# Altium footprint library MIT_Pcblib.PcbLib: 41 footprints (part 1 of 3)
Each footprint in its own frame and in the unit in brackets; x right, y up, seen from the top. Pads: shape width x height; smd on the part's side, far side on the other; paste and mask are expansions set on the pad; w line width, h text height; cw(c..) or ccw(c..) is an arc to the next point about the centre after c.
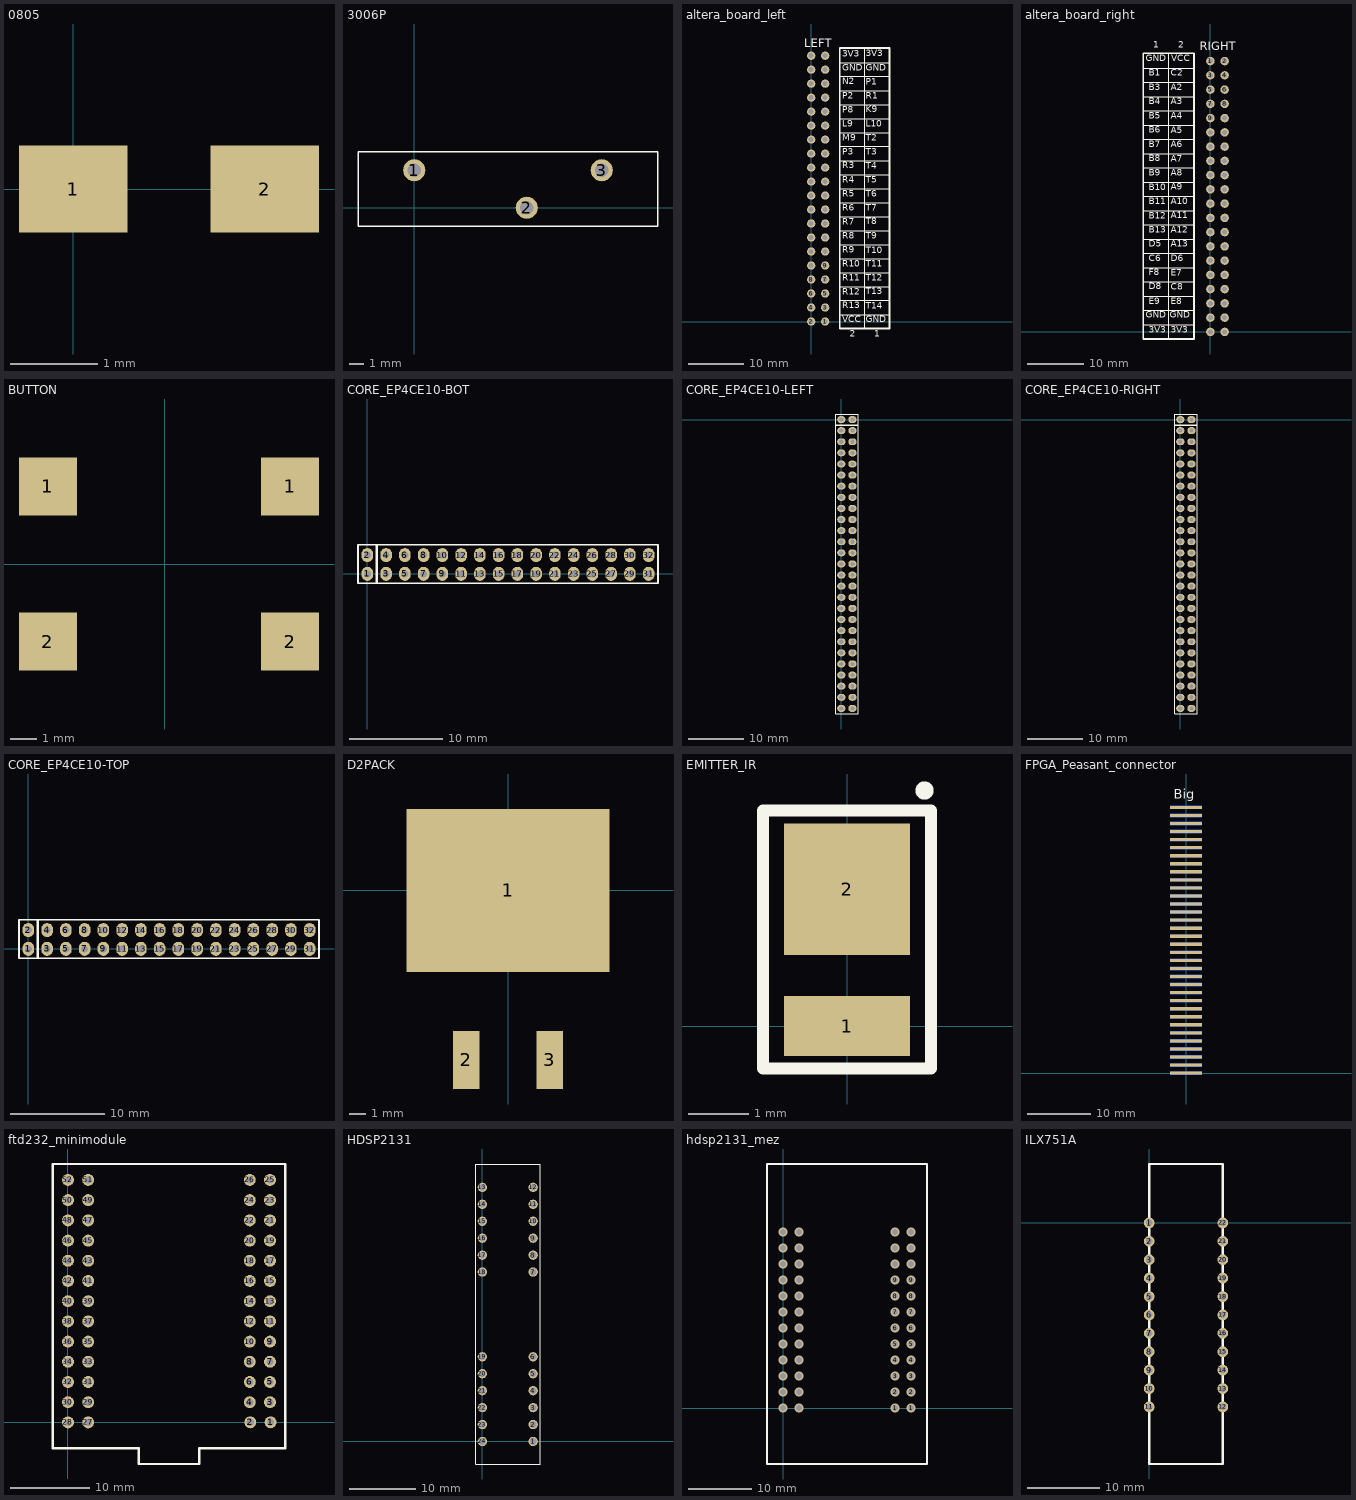
[diagram p0: the footprints below, top view; thin cyan lines are the x and y axes]

## 0805 [mm]
pads (2):
  rect 1.25x1 smd: 1(0,0) 2(2.2,0)
3D body: height 1.25, standoff 0, extent -0.727,-0.602 2.927,0.602

## 3006P [mm]
pads (3):
  round 1.5 hole 0.9: 1(0,2.54) 2(7.62,0) 3(12.7,2.54)
Top Overlay:
  lines w0.1: -3.81,-1.27 -3.81,3.81 16.51,3.81 16.51,-1.27 -3.81,-1.27
3D body: height 6.35, standoff 0, extent -3.86,-1.32 16.56,3.86
3D body: height 5.76, standoff 3.5, extent 16.511,0.001 18.033,2.539

## altera_board_left [mm]
pads (40):
  round 1.5 hole 0.9: 1(2.54,0) 2(0,0) 3(2.54,2.54) 4(0,2.54) 5(2.54,5.08) 6(0,5.08) 7(2.54,7.62) 8(0,7.62) 9(2.54,10.16) 10(0,10.16) 11(2.54,12.7) 12(0,12.7) 13(2.54,15.24) 14(0,15.24) 15(2.54,17.78) 16(0,17.78) 17(2.54,20.32) 18(0,20.32) 19(2.54,22.86) 20(0,22.86) 21(2.54,25.4) 22(0,25.4) 23(2.54,27.94) 24(0,27.94) 25(2.54,30.48) 26(0,30.48) 27(2.54,33.02) 28(0,33.02) 29(2.54,35.56) 30(0,35.56) 31(2.54,38.1) 32(0,38.1) 33(2.54,40.64) 34(0,40.64) 35(2.54,43.18) 36(0,43.18) 37(2.54,45.72) 38(0,45.72) 39(2.54,48.26) 40(0,48.26)
Top Overlay:
  lines w0.203: 5.156,6.35 14.249,6.35 ; 5.156,11.43 14.249,11.43 ; 5.156,13.97 14.234,13.97 ; 5.156,19.05 14.259,19.05 ; 5.156,21.565 14.224,21.565 ; 5.177,16.51 14.224,16.51 ; 5.182,8.89 14.224,8.89 ; 5.182,24.13 14.224,24.13 ; 5.182,29.21 14.224,29.21 ; 5.182,41.91 14.224,41.91 ; 5.207,44.526 14.224,44.526 ; 5.232,26.67 14.224,26.67 ; 5.232,34.29 14.242,34.29 ; 5.232,39.37 14.224,39.37 ; 5.232,46.99 14.224,46.99 ; 5.236,31.775 14.224,31.775 ; 5.236,36.83 14.224,36.83 ; 9.754,49.606 9.754,-1.261 9.779,-1.261 ; 14.224,1.27 5.156,1.27 5.156,3.861 14.224,3.861
  lines w0.305: 14.224,49.606 14.224,-1.27 5.156,-1.27 5.156,49.657 14.224,49.657
  text "LEFT" at -1.27,49.784 h1.5
  text "3V3" at 5.588,47.642 h2.03
  text "3V3" at 9.931,47.693 h2.03
  text "GND" at 5.588,45.077 h2.03
  text "GND" at 9.931,45.077 h2.03
  text "N2" at 5.588,42.587 h2.03
  text "P1" at 9.931,42.511 h2.03
  text "P2" at 5.588,39.997 h2.03
  text "R1" at 9.931,39.997 h2.03
  text "P8" at 5.588,37.457 h2.03
  text "K9" at 9.931,37.507 h2.03
  text "L9" at 5.588,34.891 h2.03
  text "L10" at 9.931,34.891 h2.03
  text "M9" at 5.588,32.377 h2.03
  text "T2" at 9.931,32.402 h2.03
  text "P3" at 5.588,29.862 h2.03
  text "T3" at 9.931,29.811 h2.03
  text "R3" at 5.588,27.347 h2.03
  text "T4" at 9.931,27.297 h2.03
  text "R4" at 5.588,24.757 h2.03
  text "T5" at 9.931,24.757 h2.03
  text "R5" at 5.588,22.217 h2.03
  text "T6" at 9.931,22.217 h2.03
  text "R6" at 5.588,19.68 h2.03
  text "T7" at 9.931,19.68 h2.03
  text "R7" at 5.588,17.137 h2.03
  text "T8" at 9.931,17.187 h2.03
  text "R8" at 5.588,14.592 h2.03
  text "T9" at 9.931,14.571 h2.03
  text "R9" at 5.588,12.057 h2.03
  text "T10" at 9.931,11.955 h2.03
  text "R10" at 5.588,9.517 h2.03
  text "T11" at 9.931,9.517 h2.03
  text "R11" at 5.588,6.926 h2.03
  text "T12" at 9.931,6.926 h2.03
  text "R12" at 5.588,4.411 h2.03
  text "T13" at 9.931,4.487 h2.03
  text "R13" at 5.588,1.922 h2.03
  text "T14" at 9.931,1.897 h2.03
  text "2" at 6.985,-3.175 h2.03
  text "1" at 11.43,-3.175 h2.03
  text "VCC" at 5.588,-0.618 h2.03
  text "GND" at 9.931,-0.618 h2.03

## altera_board_right [mm]
pads (40):
  round 1.5 hole 0.9: 1(0,48.26) 2(2.54,48.26) 3(0,45.72) 4(2.54,45.72) 5(0,43.18) 6(2.54,43.18) 7(0,40.64) 8(2.54,40.64) 9(0,38.1) 10(2.54,38.1) 11(0,35.56) 12(2.54,35.56) 13(0,33.02) 14(2.54,33.02) 15(0,30.48) 16(2.54,30.48) 17(0,27.94) 18(2.54,27.94) 19(0,25.4) 20(2.54,25.4) 21(0,22.86) 22(2.54,22.86) 23(0,20.32) 24(2.54,20.32) 25(0,17.78) 26(2.54,17.78) 27(0,15.24) 28(2.54,15.24) 29(0,12.7) 30(2.54,12.7) 31(0,10.16) 32(2.54,10.16) 33(0,7.62) 34(2.54,7.62) 35(0,5.08) 36(2.54,5.08) 37(0,2.54) 38(2.54,2.54) 39(0,0) 40(2.54,0)
Top Overlay:
  lines w0.203: -11.989,6.35 -2.896,6.35 ; -11.989,11.43 -2.896,11.43 ; -11.989,13.97 -2.911,13.97 ; -11.989,19.05 -2.886,19.05 ; -11.989,21.565 -2.921,21.565 ; -11.968,16.51 -2.921,16.51 ; -11.963,8.89 -2.921,8.89 ; -11.963,24.13 -2.921,24.13 ; -11.963,29.21 -2.921,29.21 ; -11.963,41.91 -2.921,41.91 ; -11.938,44.526 -2.921,44.526 ; -11.913,26.67 -2.921,26.67 ; -11.913,34.29 -2.903,34.29 ; -11.913,39.37 -2.921,39.37 ; -11.913,46.99 -2.921,46.99 ; -11.909,31.775 -2.921,31.775 ; -11.909,36.83 -2.921,36.83 ; -7.391,49.606 -7.391,-1.261 -7.366,-1.261 ; -2.921,1.27 -11.989,1.27 -11.989,3.861 -2.921,3.861
  lines w0.305: -2.921,49.606 -2.921,-1.27 -11.989,-1.27 -11.989,49.657 -2.921,49.657
  text "1" at -10.16,50.165 h2.03
  text "2" at -5.715,50.165 h2.03
  text "RIGHT" at -1.905,50.165 h1.5
  text "GND" at -11.557,47.752 h2.03
  text "VCC" at -6.985,47.752 h2.03
  text "B1" at -10.998,45.17 h2.03
  text "C2" at -7.087,45.17 h2.03
  text "B3" at -10.998,42.604 h2.03
  text "A2" at -7.087,42.63 h2.03
  text "B4" at -10.998,40.166 h2.03
  text "A3" at -7.087,40.115 h2.03
  text "B5" at -10.998,37.499 h2.03
  text "A4" at -7.087,37.524 h2.03
  text "B6" at -10.998,35.052 h2.03
  text "A5" at -7.087,34.976 h2.03
  text "B7" at -10.998,32.495 h2.03
  text "A6" at -7.087,32.461 h2.03
  text "B8" at -10.998,29.955 h2.03
  text "A7" at -7.087,29.896 h2.03
  text "B9" at -10.998,27.415 h2.03
  text "A8" at -7.087,27.364 h2.03
  text "B10" at -10.998,24.824 h2.03
  text "A9" at -7.087,24.85 h2.03
  text "B11" at -10.998,22.335 h2.03
  text "A10" at -7.087,22.31 h2.03
  text "B12" at -10.998,19.744 h2.03
  text "A11" at -7.087,19.82 h2.03
  text "B13" at -10.998,17.255 h2.03
  text "A12" at -7.087,17.23 h2.03
  text "D5" at -10.998,14.74 h2.03
  text "A13" at -7.087,14.69 h2.03
  text "C6" at -10.998,12.15 h2.03
  text "D6" at -7.087,12.124 h2.03
  text "F8" at -10.998,9.66 h2.03
  text "E7" at -7.087,9.584 h2.03
  text "D8" at -10.998,7.12 h2.03
  text "C8" at -7.087,7.044 h2.03
  text "E9" at -10.998,4.504 h2.03
  text "E8" at -7.087,4.479 h2.03
  text "GND" at -11.557,2.032 h2.03
  text "GND" at -7.239,2.032 h2.03
  text "3V3" at -10.998,-0.584 h2.03
  text "3V3" at -7.087,-0.635 h2.03

## BUTTON [mm]
pads (4):
  rect 2.2x2.2 smd: 1(-4.447,2.959) 1(4.753,2.959) 2(-4.447,-2.941) 2(4.753,-2.941)
3D body: height 3.5, standoff 0, extent -2.974,-2.968 3.28,3.286
3D body: height 4.3, standoff 3.5, extent -1.693,-1.487 1.799,2.005

## CORE_EP4CE10-BOT [mm]
pads (32):
  oval 1.25x1.5 hole 0.75: 1(0,0) 2(0,2) 3(2,0) 4(2,2) 5(4,0) 6(4,2) 7(6,0) 8(6,2) 9(8,0) 10(8,2) 11(10,0) 12(10,2) 13(12,0) 14(12,2) 15(14,0) 16(14,2) 17(16,0) 18(16,2) 19(18,0) 20(18,2) 21(20,0) 22(20,2) 23(22,0) 24(22,2) 25(24,0) 26(24,2) 27(26,0) 28(26,2) 29(28,0) 30(28,2) 31(30,0) 32(30,2)
Top Overlay:
  lines w0.2: -1,-1 30.987,-1 30.994,-0.993 30.994,3.099 ; -1,-0.991 -1,3.1 ; -1,1.1 -1,2.5 ; -1,3.099 31,3.099
  lines w0.254: 1,-0.965 1,3.048

## CORE_EP4CE10-LEFT [mm]
pads (54):
  oval 1.5x1.25 hole 0.75: 1(0,0) 2(2,0) 3(0,-2) 4(2,-2) 5(0,-4) 6(2,-4) 7(0,-6) 8(2,-6) 9(0,-8) 10(2,-8) 11(0,-10) 12(2,-10) 13(0,-12) 14(2,-12) 15(0,-14) 16(2,-14) 17(0,-16) 18(2,-16) 19(0,-18) 20(2,-18) 21(0,-20) 22(2,-20) 23(0,-22) 24(2,-22) 25(0,-24) 26(2,-24) 27(0,-26) 28(2,-26) 29(0,-28) 30(2,-28) 31(0,-30) 32(2,-30) 33(0,-32) 34(2,-32) 35(0,-34) 36(2,-34) 37(0,-36) 38(2,-36) 39(0,-38) 40(2,-38)
  oval 1.5x1.25 hole 0.762: 41(0,-40) 42(2,-40) 43(0,-42) 44(2,-42) 45(0,-44) 46(2,-44) 47(0,-46) 48(2,-46) 49(0,-48) 50(2,-48) 51(0,-50) 52(2,-50) 53(0,-52) 54(2,-52)
Top Overlay:
  lines w0.2: -1,1 -1,-53 -0.991,-53.01 2.997,-53.01 3.023,-52.984 3.023,1 -0.991,1 ; 1.1,1 2.5,1
  lines w0.254: -0.965,-1 3.048,-1

## CORE_EP4CE10-RIGHT [mm]
pads (54):
  oval 1.5x1.25 hole 0.75: 1(0,0) 2(2,0) 3(0,-2) 4(2,-2) 5(0,-4) 6(2,-4) 7(0,-6) 8(2,-6) 9(0,-8) 10(2,-8) 11(0,-10) 12(2,-10) 13(0,-12) 14(2,-12) 15(0,-14) 16(2,-14) 17(0,-16) 18(2,-16) 19(0,-18) 20(2,-18) 21(0,-20) 22(2,-20) 23(0,-22) 24(2,-22) 25(0,-24) 26(2,-24) 27(0,-26) 28(2,-26) 29(0,-28) 30(2,-28) 31(0,-30) 32(2,-30) 33(0,-32) 34(2,-32) 35(0,-34) 36(2,-34) 37(0,-36) 38(2,-36) 39(0,-38) 40(2,-38)
  oval 1.5x1.25 hole 0.762: 41(0,-40) 42(2,-40) 43(0,-42) 44(2,-42) 45(0,-44) 46(2,-44) 47(0,-46) 48(2,-46) 49(0,-48) 50(2,-48) 51(0,-50) 52(2,-50) 53(0,-52) 54(2,-52)
Top Overlay:
  lines w0.2: -1,1 -1,-53 -0.991,-53.01 2.997,-53.01 3.023,-52.984 3.023,1 -0.991,1 ; 1.1,1 2.5,1
  lines w0.254: -0.965,-1 3.048,-1

## CORE_EP4CE10-TOP [mm]
pads (32):
  oval 1.25x1.5 hole 0.75: 1(0,0) 2(0,2) 3(2,0) 4(2,2) 5(4,0) 6(4,2) 7(6,0) 8(6,2) 9(8,0) 10(8,2) 11(10,0) 12(10,2) 13(12,0) 14(12,2) 15(14,0) 16(14,2) 17(16,0) 18(16,2) 19(18,0) 20(18,2) 21(20,0) 22(20,2) 23(22,0) 24(22,2) 25(24,0) 26(24,2) 27(26,0) 28(26,2) 29(28,0) 30(28,2) 31(30,0) 32(30,2)
Top Overlay:
  lines w0.2: -1,-1 30.987,-1 30.994,-0.993 30.994,3.099 ; -1,-0.991 -1,3.1 ; -1,1.1 -1,2.5 ; -1,3.099 31,3.099
  lines w0.254: 1,-0.965 1,3.048

## D2PACK [mm]
pads (3):
  rect 12.2x9.8 smd: 1(0,0)
  rect 1.6x3.5 smd: 2(-2.5,-10.2) 3(2.5,-10.2)

## EMITTER_IR [mm] "EMITTER_IR"
pads (2):
  rect 2.1x1 smd: 1(0,0)
  rect 2.1x2.2 smd: 2(0,2.286)
Top Overlay:
  circle w0.254: c1.295,3.937 r0.025
  lines w0.2: -1.4,-0.711 -1.4,3.6 1.4,3.6 1.4,-0.711 -1.4,-0.711
3D body: height 0.8, standoff 0, extent -1.399,-0.711 1.399,3.599

## FPGA_Peasant_connector [mm]
pads (68):
  rect 5x0.5 smd: 1(0,41.91) 2(0,40.64) 3(0,39.37) 4(0,38.1) 5(0,36.83) 6(0,35.56) 7(0,34.29) 8(0,33.02) 9(0,31.75) 10(0,30.48) 11(0,29.21) 12(0,27.94) 13(0,26.67) 14(0,25.4) 15(0,24.13) 16(0,22.86) 17(0,21.59) 18(0,20.32) 19(0,19.05) 20(0,17.78) 21(0,16.51) 22(0,15.24) 23(0,13.97) 24(0,12.7) 25(0,11.43) 26(0,10.16) 27(0,8.89) 28(0,7.62) 29(0,6.35) 30(0,5.08) 31(0,3.81) 32(0,2.54) 33(0,1.27) 34(0,0)
  rect 5x0.5 smd far side: 35(0,41.91) 36(0,40.64) 37(0,39.37) 38(0,38.1) 39(0,36.83) 40(0,35.56) 41(0,34.29) 42(0,33.02) 43(0,31.75) 44(0,30.48) 45(0,29.21) 46(0,27.94) 47(0,26.67) 48(0,25.4) 49(0,24.13) 50(0,22.86) 51(0,21.59) 52(0,20.32) 53(0,19.05) 54(0,17.78) 55(0,16.51) 56(0,15.24) 57(0,13.97) 58(0,12.7) 59(0,11.43) 60(0,10.16) 61(0,8.89) 62(0,7.62) 63(0,6.35) 64(0,5.08) 65(0,3.81) 66(0,2.54) 67(0,1.27) 68(0,0)
Top Overlay:
  text "Big" at -1.905,43.307 h1.5

## ftd232_minimodule [mm]
pads (52):
  round 1.5 hole 0.9: 1(25.465,0.01) 2(22.925,0.01) 3(25.4,2.54) 4(22.86,2.54) 5(25.4,5.08) 6(22.86,5.08) 7(25.4,7.62) 8(22.86,7.62) 9(25.4,10.16) 10(22.86,10.16) 11(25.4,12.7) 12(22.86,12.7) 13(25.4,15.24) 14(22.86,15.24) 15(25.4,17.78) 16(22.86,17.78) 17(25.4,20.32) 18(22.86,20.32) 19(25.4,22.86) 20(22.86,22.86) 21(25.4,25.4) 22(22.86,25.4) 23(25.4,27.94) 24(22.86,27.94) 25(25.4,30.48) 26(22.86,30.48) 27(2.54,0) 28(0,0) 29(2.54,2.54) 30(0,2.54) 31(2.54,5.08) 32(0,5.08) 33(2.54,7.62) 34(0,7.62) 35(2.54,10.16) 36(0,10.16) 37(2.54,12.7) 38(0,12.7) 39(2.54,15.24) 40(0,15.24) 41(2.54,17.78) 42(0,17.78) 43(2.54,20.32) 44(0,20.32) 45(2.54,22.86) 46(0,22.86) 47(2.54,25.4) 48(0,25.4) 49(2.54,27.94) 50(0,27.94) 51(2.54,30.48) 52(0,30.48)
Top Overlay:
  lines w0.3: -1.905,-3.251 8.89,-3.251 8.89,-5.232 16.51,-5.232 16.51,-3.251 27.305,-3.251 27.305,32.487 -1.905,32.487 -1.905,-3.251
3D body: height 4.3, standoff 2.5, extent -1.892,-3.251 27.317,32.486
3D body: height 2.5, standoff 0, extent -0.634,-0.634 3.174,31.114
3D body: height 2.5, standoff 0, extent 22.226,-0.634 26.034,31.114
3D body: height 8.2, standoff 4.3, extent 8.865,-5.258 16.484,4.749

## HDSP2131 [mm]
pads (24):
  round 1.4 hole 1 unplated: 1(7.62,0) 2(7.62,2.54) 3(7.62,5.08) 4(7.62,7.62) 5(7.62,10.16) 6(7.62,12.7) 7(7.62,25.4) 8(7.62,27.94) 9(7.62,30.48) 10(7.62,33.02) 11(7.62,35.56) 12(7.62,38.1) 13(0,38.1) 14(0,35.56) 15(0,33.02) 16(0,30.48) 17(0,27.94) 18(0,25.4) 19(0,12.7) 20(0,10.16) 21(0,7.62) 22(0,5.08) 23(0,2.54) 24(0,0)
Top Overlay:
  lines w0.1: -1.016,-3.378 3.785,-3.378 8.712,-3.378 8.712,41.351 8.712,41.605 -1.016,41.605 -1.016,-3.378

## hdsp2131_mez [mm]
pads (48):
  round 1.4 hole 0.9: 1(17.78,0) 1(20.32,0) 2(17.78,2.54) 2(20.32,2.54) 3(17.78,5.08) 3(20.32,5.08) 4(17.78,7.62) 4(20.32,7.62) 5(17.78,10.16) 5(20.32,10.16) 6(17.78,12.7) 6(20.32,12.7) 7(17.78,15.24) 7(20.32,15.24) 8(17.78,17.78) 8(20.32,17.78) 9(17.78,20.32) 9(20.32,20.32) 10(17.78,22.86) 10(20.32,22.86) 11(17.78,25.4) 11(20.32,25.4) 12(17.78,27.94) 12(20.32,27.94) 13(0,27.94) 13(2.54,27.94) 14(0,25.4) 14(2.54,25.4) 15(0,22.86) 15(2.54,22.86) 16(0,20.32) 16(2.54,20.32) 17(0,17.78) 17(2.54,17.78) 18(0,15.24) 18(2.54,15.24) 19(0,12.7) 19(2.54,12.7) 20(0,10.16) 20(2.54,10.16) 21(0,7.62) 21(2.54,7.62) 22(0,5.08) 22(2.54,5.08) 23(0,2.54) 23(2.54,2.54) 24(0,0) 24(2.54,0)
Top Overlay:
  lines w0.3: -2.54,-8.89 -2.54,38.735 22.86,38.735 22.86,5.08 22.86,-8.89 -2.54,-8.89

## ILX751A [mm]
pads (22):
  round 1.5 hole 0.9: 1(0,0) 2(0,-2.54) 3(0,-5.08) 4(0,-7.62) 5(0,-10.16) 6(0,-12.7) 7(0,-15.24) 8(0,-17.78) 9(0,-20.32) 10(0,-22.86) 11(0,-25.4) 12(10.16,-25.4) 13(10.16,-22.86) 14(10.16,-20.32) 15(10.16,-17.78) 16(10.16,-15.24) 17(10.16,-12.7) 18(10.16,-10.16) 19(10.16,-7.62) 20(10.16,-5.08) 21(10.16,-2.54) 22(10.16,0)
Top Overlay:
  lines w0.3: 0,-33.274 10.16,-33.274 10.16,8.128 5.08,8.128 0,8.128 0,-33.274
3D body: height 4.85, standoff 0, extent 0.001,-33.273 10.159,8.127